# EAGLE library part HUB_MOTOR (library pedelec)
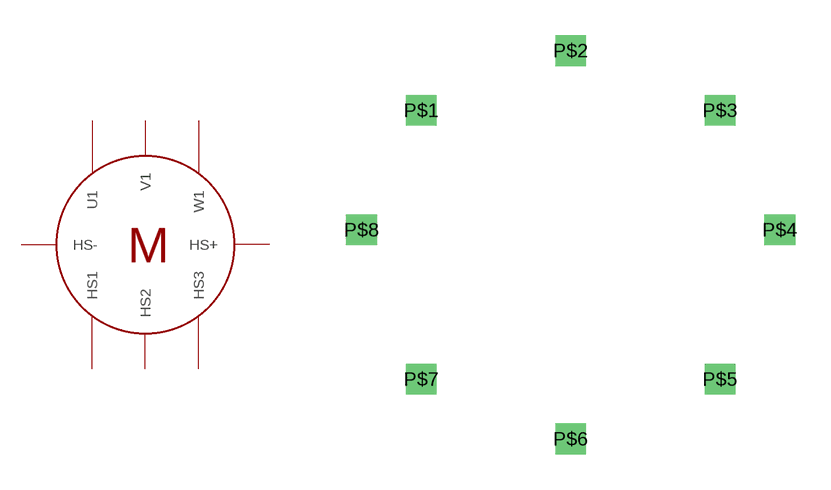
[diagram p2: symbol with the pads of HUB_MOTOR; footprint HUB_MOTOR]

Designator prefix -

## HUB_MOTOR  [HUB_MOTOR]
P$1  HS+  in
P$2  HS-  in
P$3  HS1  out
P$4  HS2  out
P$5  HS3  out
P$6  U1  in
P$7  V1  in
P$8  W1  in

## Footprint HUB_MOTOR (pad centres in mm)
drill 0.8 square: P$1 -6.35,7.62; P$2 0,10.16; P$3 6.35,7.62; P$4 8.89,2.54; P$5 6.35,-3.81; P$6 0,-6.35; P$7 -6.35,-3.81; P$8 -8.89,2.54